# Altium schematic symbol library via.SchLib: 1 symbol
Pins are listed as number, name and electrical type; pins without a type are passive.

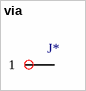
[diagram p0: symbol via]

## via
designator J*  (value not drawn)
footprint .9mm via (.9mm via 1.5mm pad)
footprint 10mil via (10mil via 16mil pad)
footprint 8mil via (8mil via 14mil pad)
pins: 1